# EAGLE library part PMIC-MP2225 (library RoverWing-V1.5)
MP2225 buck converter Manufacturer: Monolithic Power Systems Specs: Vin: 4.5-18 V Vout: up to 13.7 V Iout: up to 5A
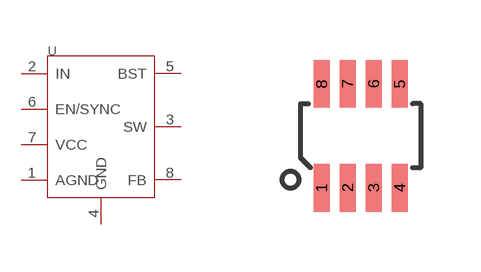
[diagram p9: symbol with the pads of SOT-23-8; footprint SOT-23-8]

Designator prefix U

## PMIC-MP2225 (MANUFACTURER: Monolithic Power Systems; PARTNO: MP2225GJ)  [SOT-23-8]
1  AGND
2  IN
3  SW
4  GND
5  BST
6  EN/SYNC
7  VCC
8  FB

## Footprint SOT-23-8 (pad centres in mm)
smd 0.4 x 1.2: 1 -0.975,-1.3; 2 -0.325,-1.3; 3 0.325,-1.3; 4 0.975,-1.3; 5 0.975,1.3; 6 0.325,1.3; 7 -0.325,1.3; 8 -0.975,1.3